# EAGLE library part COUNTER_BINARY-12BIT (library CougsInSpace-IC-Logic)
Binary Counter - 12b CDx4HCx4040 <https://github.com/CougsInSpace/Resources/blob/master/SupplierDocuments/Ti/CD74HC4040.pdf>
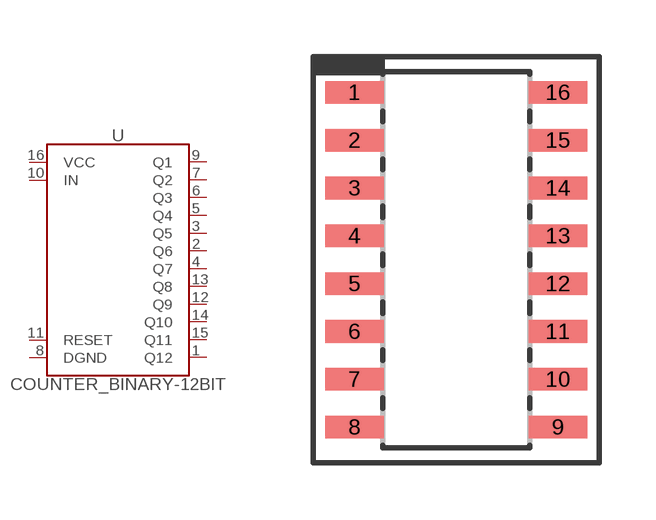
[diagram p2: symbol with the pads of SO16; footprint SO16]

Designator prefix U

## COUNTER_BINARY-12BITSO16 (SKU: 28-0004; VALUE: CD74HC4040M)  [SO16]
1  Q12  out
2  Q6  out
3  Q5  out
4  Q7  out
5  Q4  out
6  Q3  out
7  Q2  out
8  DGND  pwr
9  Q1  out
10  IN  in
11  RESET  in
12  Q9  out
13  Q8  out
14  Q10  out
15  Q11  out
16  VCC  pwr

## Footprint SO16 (pad centres in mm)
Small-Outline (SO) - 16 Pins
smd 1.55 x 0.6: 1 -2.7,4.445; 2 -2.7,3.175; 3 -2.7,1.905; 4 -2.7,0.635; 5 -2.7,-0.635; 6 -2.7,-1.905; 7 -2.7,-3.175; 8 -2.7,-4.445; 9 2.7,-4.445; 10 2.7,-3.175; 11 2.7,-1.905; 12 2.7,-0.635; 13 2.7,0.635; 14 2.7,1.905; 15 2.7,3.175; 16 2.7,4.445